# Altium footprint library Miscellaneous Connectors.PcbLib: 193 footprints (part 8 of 13)
Each footprint in its own frame and in the unit in brackets; x right, y up, seen from the top. Pads: shape width x height; smd on the part's side, far side on the other; paste and mask are expansions set on the pad; w line width, h text height; cw(c..) or ccw(c..) is an arc to the next point about the centre after c.
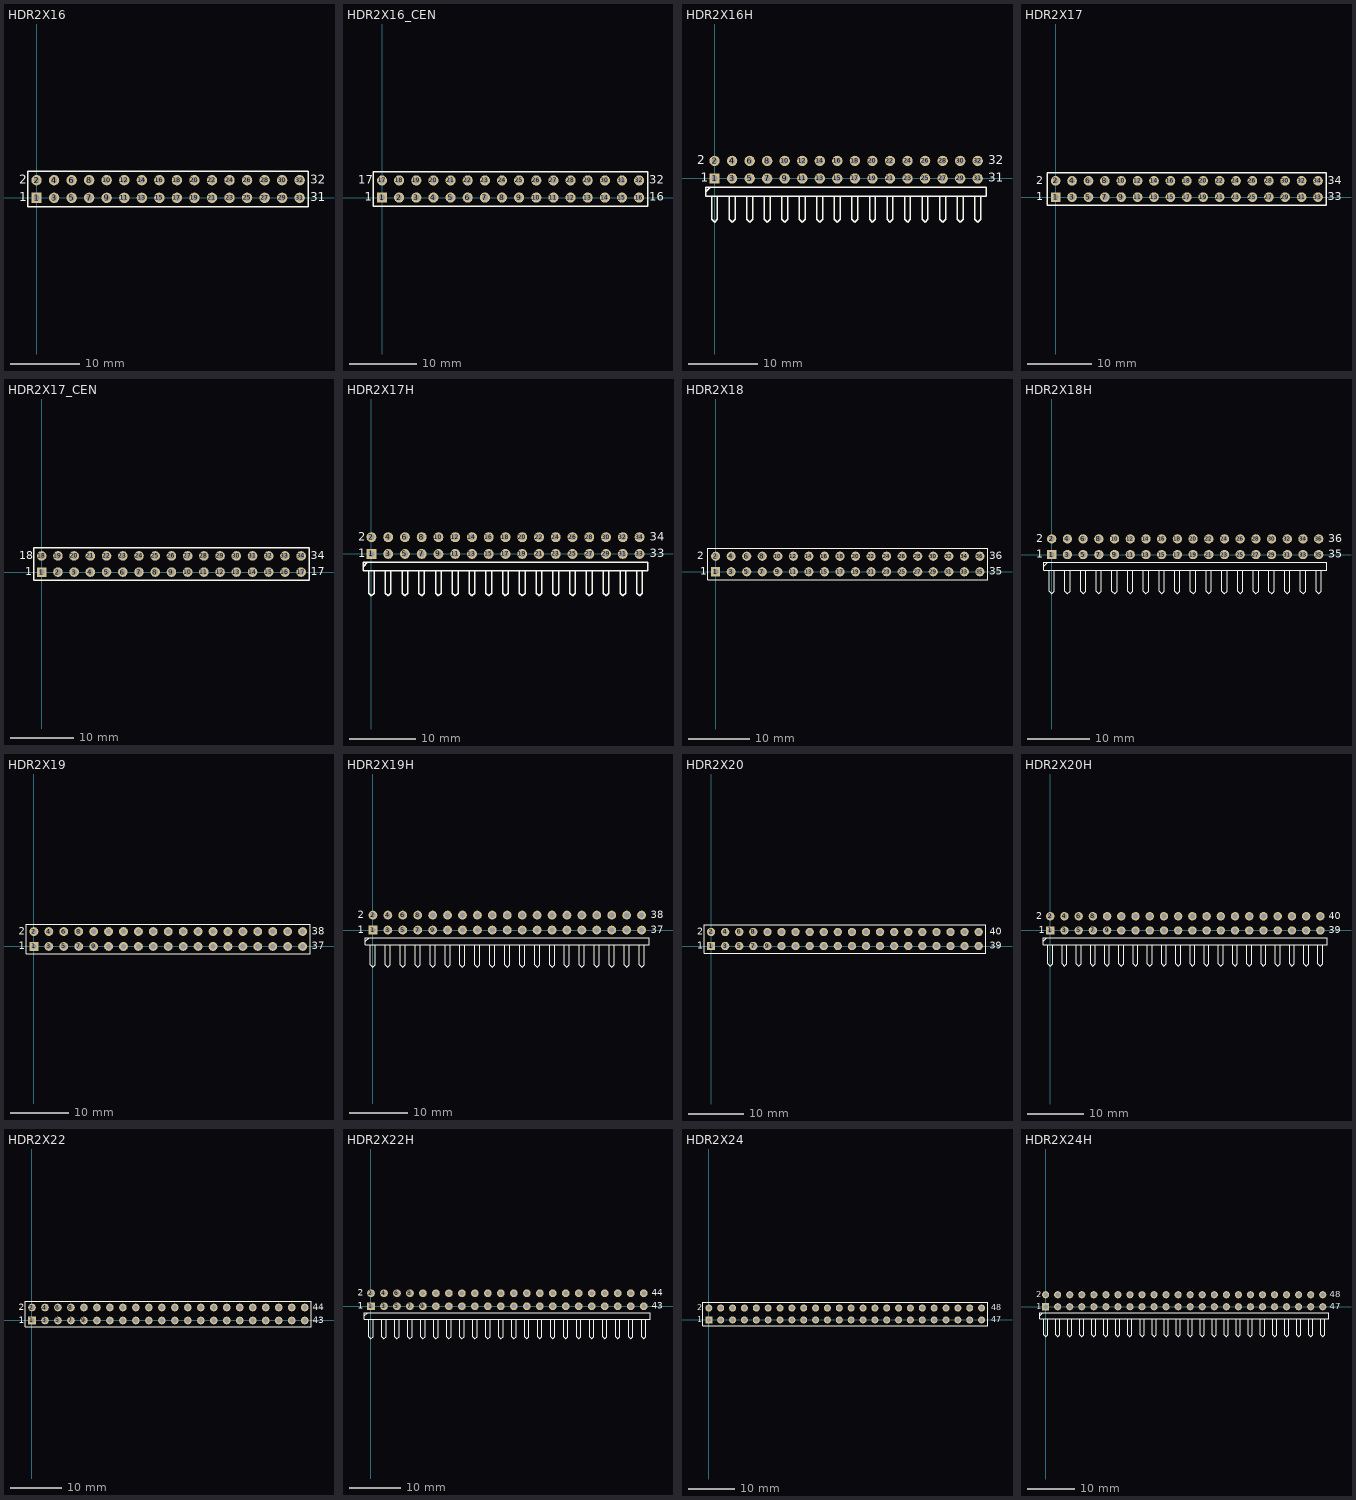
[diagram p7: the footprints below, top view; thin cyan lines are the x and y axes]

## HDR2X16 [mm] "Connector; Header; 16x2 Position"
pads (32):
  rect 1.5x1.5 hole 0.9: 1(0,0)
  round 1.5 hole 0.9: 2(0,2.54) 3(2.54,0) 4(2.54,2.54) 5(5.08,0) 6(5.08,2.54) 7(7.62,0) 8(7.62,2.54) 9(10.16,0) 10(10.16,2.54) 11(12.7,0) 12(12.7,2.54) 13(15.24,0) 14(15.24,2.54) 15(17.78,0) 16(17.78,2.54) 17(20.32,0) 18(20.32,2.54) 19(22.86,0) 20(22.86,2.54) 21(25.4,0) 22(25.4,2.54) 23(27.94,0) 24(27.94,2.54) 25(30.48,0) 26(30.48,2.54) 27(33.02,0) 28(33.02,2.54) 29(35.56,0) 30(35.56,2.54) 31(38.1,0) 32(38.1,2.54)
Top Overlay:
  lines w0.2: -1.27,-1.27 -1.27,3.81 39.37,3.81 39.37,-1.27 -1.27,-1.27
  text "32" at 39.624,2.032 h1.27
  text "31" at 39.624,-0.508 h1.27
  text "1" at -2.54,-0.508 h1.27
  text "2" at -2.54,2.032 h1.27

## HDR2X16_CEN [mm] "Connector; Header; 16x2 Position"
pads (32):
  rect 1.5x1.5 hole 0.9: 1(0,0)
  round 1.5 hole 0.9: 2(2.54,0) 3(5.08,0) 4(7.62,0) 5(10.16,0) 6(12.7,0) 7(15.24,0) 8(17.78,0) 9(20.32,0) 10(22.86,0) 11(25.4,0) 12(27.94,0) 13(30.48,0) 14(33.02,0) 15(35.56,0) 16(38.1,0) 17(0,2.54) 18(2.54,2.54) 19(5.08,2.54) 20(7.62,2.54) 21(10.16,2.54) 22(12.7,2.54) 23(15.24,2.54) 24(17.78,2.54) 25(20.32,2.54) 26(22.86,2.54) 27(25.4,2.54) 28(27.94,2.54) 29(30.48,2.54) 30(33.02,2.54) 31(35.56,2.54) 32(38.1,2.54)
Top Overlay:
  lines w0.2: -1.27,-1.27 39.37,-1.27 39.37,3.81 -1.27,3.81 -1.27,-1.27
  text "17" at -3.556,2.032 h1.27
  text "1" at -2.54,-0.508 h1.27
  text "16" at 39.624,-0.508 h1.27
  text "32" at 39.624,2.032 h1.27

## HDR2X16H [mm] "Connector; Header; 16x2 Position; Right Angle"
pads (32):
  rect 1.5x1.5 hole 0.9: 1(0,0)
  round 1.5 hole 0.9: 2(0,2.54) 3(2.54,0) 4(2.54,2.54) 5(5.08,0) 6(5.08,2.54) 7(7.62,0) 8(7.62,2.54) 9(10.16,0) 10(10.16,2.54) 11(12.7,0) 12(12.7,2.54) 13(15.24,0) 14(15.24,2.54) 15(17.78,0) 16(17.78,2.54) 17(20.32,0) 18(20.32,2.54) 19(22.86,0) 20(22.86,2.54) 21(25.4,0) 22(25.4,2.54) 23(27.94,0) 24(27.94,2.54) 25(30.48,0) 26(30.48,2.54) 27(33.02,0) 28(33.02,2.54) 29(35.56,0) 30(35.56,2.54) 31(38.1,0) 32(38.1,2.54)
Top Overlay:
  lines w0.2: -1.27,-1.905 -0.635,-1.27 ; -0.423,-2.54 -0.423,-5.927 0,-6.35 0.423,-5.927 0.423,-2.54 ; 2.117,-2.54 2.117,-5.927 2.54,-6.35 2.963,-5.927 2.963,-2.54 ; 4.657,-2.54 4.657,-5.927 5.08,-6.35 5.503,-5.927 5.503,-2.54 ; 7.197,-2.54 7.197,-5.927 7.62,-6.35 8.043,-5.927 8.043,-2.54 ; 9.737,-2.54 9.737,-5.927 10.16,-6.35 10.583,-5.927 10.583,-2.54 ; 12.277,-2.54 12.277,-5.927 12.7,-6.35 13.123,-5.927 13.123,-2.54 ; 14.817,-2.54 14.817,-5.927 15.24,-6.35 15.663,-5.927 15.663,-2.54 ; 17.357,-2.54 17.357,-5.927 17.78,-6.35 18.203,-5.927 18.203,-2.54 ; 19.897,-2.54 19.897,-5.927 20.32,-6.35 20.743,-5.927 20.743,-2.54 ; 22.437,-2.54 22.437,-5.927 22.86,-6.35 23.283,-5.927 23.283,-2.54 ; 24.977,-2.54 24.977,-5.927 25.4,-6.35 25.823,-5.927 25.823,-2.54 ; 27.517,-2.54 27.517,-5.927 27.94,-6.35 28.363,-5.927 28.363,-2.54 ; 30.057,-2.54 30.057,-5.927 30.48,-6.35 30.903,-5.927 30.903,-2.54 ; 32.597,-2.54 32.597,-5.927 33.02,-6.35 33.443,-5.927 33.443,-2.54 ; 35.137,-2.54 35.137,-5.927 35.56,-6.35 35.983,-5.927 35.983,-2.54 ; 37.677,-2.54 37.677,-5.927 38.1,-6.35 38.523,-5.927 38.523,-2.54 ; -1.27,-2.54 39.37,-2.54 39.37,-1.27 -1.27,-1.27 -1.27,-2.54
  text "32" at 39.624,2.032 h1.27
  text "31" at 39.624,-0.508 h1.27
  text "1" at -2.032,-0.508 h1.27
  text "2" at -2.54,2.032 h1.27

## HDR2X17 [mm] "Connector; Header; 17x2 Position"
pads (34):
  rect 1.5x1.5 hole 0.9: 1(0,0)
  round 1.5 hole 0.9: 2(0,2.54) 3(2.54,0) 4(2.54,2.54) 5(5.08,0) 6(5.08,2.54) 7(7.62,0) 8(7.62,2.54) 9(10.16,0) 10(10.16,2.54) 11(12.7,0) 12(12.7,2.54) 13(15.24,0) 14(15.24,2.54) 15(17.78,0) 16(17.78,2.54) 17(20.32,0) 18(20.32,2.54) 19(22.86,0) 20(22.86,2.54) 21(25.4,0) 22(25.4,2.54) 23(27.94,0) 24(27.94,2.54) 25(30.48,0) 26(30.48,2.54) 27(33.02,0) 28(33.02,2.54) 29(35.56,0) 30(35.56,2.54) 31(38.1,0) 32(38.1,2.54) 33(40.64,0) 34(40.64,2.54)
Top Overlay:
  lines w0.2: -1.27,-1.27 41.91,-1.27 41.91,3.81 -1.27,3.81 -1.27,-1.27
  text "34" at 42.164,2.032 h1.27
  text "33" at 42.164,-0.508 h1.27
  text "1" at -3.048,-0.508 h1.27
  text "2" at -3.048,2.032 h1.27

## HDR2X17_CEN [mm] "Connector; Header; 17x2 Position"
pads (34):
  rect 1.5x1.5 hole 0.9: 1(0,0)
  round 1.5 hole 0.9: 2(2.54,0) 3(5.08,0) 4(7.62,0) 5(10.16,0) 6(12.7,0) 7(15.24,0) 8(17.78,0) 9(20.32,0) 10(22.86,0) 11(25.4,0) 12(27.94,0) 13(30.48,0) 14(33.02,0) 15(35.56,0) 16(38.1,0) 17(40.64,0) 18(0,2.54) 19(2.54,2.54) 20(5.08,2.54) 21(7.62,2.54) 22(10.16,2.54) 23(12.7,2.54) 24(15.24,2.54) 25(17.78,2.54) 26(20.32,2.54) 27(22.86,2.54) 28(25.4,2.54) 29(27.94,2.54) 30(30.48,2.54) 31(33.02,2.54) 32(35.56,2.54) 33(38.1,2.54) 34(40.64,2.54)
Top Overlay:
  lines w0.2: -1.27,-1.27 41.91,-1.27 41.91,3.81 -1.27,3.81 -1.27,-1.27
  text "18" at -3.556,2.032 h1.27
  text "1" at -2.54,-0.508 h1.27
  text "17" at 42.164,-0.508 h1.27
  text "34" at 42.164,2.032 h1.27

## HDR2X17H [mm] "Connector; Header; 17x2 Position; Right Angle"
pads (34):
  rect 1.5x1.5 hole 0.9: 1(0,0)
  round 1.5 hole 0.9: 2(0,2.54) 3(2.54,0) 4(2.54,2.54) 5(5.08,0) 6(5.08,2.54) 7(7.62,0) 8(7.62,2.54) 9(10.16,0) 10(10.16,2.54) 11(12.7,0) 12(12.7,2.54) 13(15.24,0) 14(15.24,2.54) 15(17.78,0) 16(17.78,2.54) 17(20.32,0) 18(20.32,2.54) 19(22.86,0) 20(22.86,2.54) 21(25.4,0) 22(25.4,2.54) 23(27.94,0) 24(27.94,2.54) 25(30.48,0) 26(30.48,2.54) 27(33.02,0) 28(33.02,2.54) 29(35.56,0) 30(35.56,2.54) 31(38.1,0) 32(38.1,2.54) 33(40.64,0) 34(40.64,2.54)
Top Overlay:
  lines w0.2: -1.27,-1.905 -0.635,-1.27 ; -0.423,-2.54 -0.423,-5.927 0,-6.35 0.423,-5.927 0.423,-2.54 ; 2.117,-2.54 2.117,-5.927 2.54,-6.35 2.963,-5.927 2.963,-2.54 ; 4.657,-2.54 4.657,-5.927 5.08,-6.35 5.503,-5.927 5.503,-2.54 ; 7.197,-2.54 7.197,-5.927 7.62,-6.35 8.043,-5.927 8.043,-2.54 ; 9.737,-2.54 9.737,-5.927 10.16,-6.35 10.583,-5.927 10.583,-2.54 ; 12.277,-2.54 12.277,-5.927 12.7,-6.35 13.123,-5.927 13.123,-2.54 ; 14.817,-2.54 14.817,-5.927 15.24,-6.35 15.663,-5.927 15.663,-2.54 ; 17.357,-2.54 17.357,-5.927 17.78,-6.35 18.203,-5.927 18.203,-2.54 ; 19.897,-2.54 19.897,-5.927 20.32,-6.35 20.743,-5.927 20.743,-2.54 ; 22.437,-2.54 22.437,-5.927 22.86,-6.35 23.283,-5.927 23.283,-2.54 ; 24.977,-2.54 24.977,-5.927 25.4,-6.35 25.823,-5.927 25.823,-2.54 ; 27.517,-2.54 27.517,-5.927 27.94,-6.35 28.363,-5.927 28.363,-2.54 ; 30.057,-2.54 30.057,-5.927 30.48,-6.35 30.903,-5.927 30.903,-2.54 ; 32.597,-2.54 32.597,-5.927 33.02,-6.35 33.443,-5.927 33.443,-2.54 ; 35.137,-2.54 35.137,-5.927 35.56,-6.35 35.983,-5.927 35.983,-2.54 ; 37.677,-2.54 37.677,-5.927 38.1,-6.35 38.523,-5.927 38.523,-2.54 ; 40.217,-2.54 40.217,-5.927 40.64,-6.35 41.063,-5.927 41.063,-2.54 ; -1.27,-2.54 -1.27,-1.27 41.91,-1.27 41.91,-2.54 -1.27,-2.54
  text "34" at 42.164,2.032 h1.27
  text "33" at 42.164,-0.508 h1.27
  text "1" at -2.032,-0.508 h1.27
  text "2" at -2.032,2.032 h1.27

## HDR2X18 [mm] "Connector; Header; 18x2 Position"
pads (36):
  rect 1.5x1.5 hole 0.9: 1(0,0)
  round 1.5 hole 0.9: 2(0,2.54) 3(2.54,0) 4(2.54,2.54) 5(5.08,0) 6(5.08,2.54) 7(7.62,0) 8(7.62,2.54) 9(10.16,0) 10(10.16,2.54) 11(12.7,0) 12(12.7,2.54) 13(15.24,0) 14(15.24,2.54) 15(17.78,0) 16(17.78,2.54) 17(20.32,0) 18(20.32,2.54) 19(22.86,0) 20(22.86,2.54) 21(25.4,0) 22(25.4,2.54) 23(27.94,0) 24(27.94,2.54) 25(30.48,0) 26(30.48,2.54) 27(33.02,0) 28(33.02,2.54) 29(35.56,0) 30(35.56,2.54) 31(38.1,0) 32(38.1,2.54) 33(40.64,0) 34(40.64,2.54) 35(43.18,0) 36(43.18,2.54)
Top Overlay:
  lines w0.2: -1.27,-1.27 -1.27,3.81 44.45,3.81 44.45,-1.27 -1.27,-1.27
  text "2" at -3.048,2.032 h1.27
  text "1" at -2.54,-0.508 h1.27
  text "35" at 44.704,-0.508 h1.27
  text "36" at 44.704,2.032 h1.27

## HDR2X18H [mm] "Connector; Header; 18x2 Position; Right Angle"
pads (36):
  rect 1.5x1.5 hole 0.9: 1(0,0)
  round 1.5 hole 0.9: 2(0,2.54) 3(2.54,0) 4(2.54,2.54) 5(5.08,0) 6(5.08,2.54) 7(7.62,0) 8(7.62,2.54) 9(10.16,0) 10(10.16,2.54) 11(12.7,0) 12(12.7,2.54) 13(15.24,0) 14(15.24,2.54) 15(17.78,0) 16(17.78,2.54) 17(20.32,0) 18(20.32,2.54) 19(22.86,0) 20(22.86,2.54) 21(25.4,0) 22(25.4,2.54) 23(27.94,0) 24(27.94,2.54) 25(30.48,0) 26(30.48,2.54) 27(33.02,0) 28(33.02,2.54) 29(35.56,0) 30(35.56,2.54) 31(38.1,0) 32(38.1,2.54) 33(40.64,0) 34(40.64,2.54) 35(43.18,0) 36(43.18,2.54)
Top Overlay:
  lines w0.2: -1.27,-1.905 -0.635,-1.27 ; -0.423,-2.54 -0.423,-5.927 0,-6.35 0.423,-5.927 0.423,-2.54 ; 2.117,-2.54 2.117,-5.927 2.54,-6.35 2.963,-5.927 2.963,-2.54 ; 4.657,-2.54 4.657,-5.927 5.08,-6.35 5.503,-5.927 5.503,-2.54 ; 7.197,-2.54 7.197,-5.927 7.62,-6.35 8.043,-5.927 8.043,-2.54 ; 9.737,-2.54 9.737,-5.927 10.16,-6.35 10.583,-5.927 10.583,-2.54 ; 12.277,-2.54 12.277,-5.927 12.7,-6.35 13.123,-5.927 13.123,-2.54 ; 14.817,-2.54 14.817,-5.927 15.24,-6.35 15.663,-5.927 15.663,-2.54 ; 17.357,-2.54 17.357,-5.927 17.78,-6.35 18.203,-5.927 18.203,-2.54 ; 19.897,-2.54 19.897,-5.927 20.32,-6.35 20.743,-5.927 20.743,-2.54 ; 22.437,-2.54 22.437,-5.927 22.86,-6.35 23.283,-5.927 23.283,-2.54 ; 24.977,-2.54 24.977,-5.927 25.4,-6.35 25.823,-5.927 25.823,-2.54 ; 27.517,-2.54 27.517,-5.927 27.94,-6.35 28.363,-5.927 28.363,-2.54 ; 30.057,-2.54 30.057,-5.927 30.48,-6.35 30.903,-5.927 30.903,-2.54 ; 32.597,-2.54 32.597,-5.927 33.02,-6.35 33.443,-5.927 33.443,-2.54 ; 35.137,-2.54 35.137,-5.927 35.56,-6.35 35.983,-5.927 35.983,-2.54 ; 37.677,-2.54 37.677,-5.927 38.1,-6.35 38.523,-5.927 38.523,-2.54 ; 40.217,-2.54 40.217,-5.927 40.64,-6.35 41.063,-5.927 41.063,-2.54 ; 42.757,-2.54 42.757,-5.927 43.18,-6.35 43.603,-5.927 43.603,-2.54 ; -1.27,-2.54 -1.27,-1.27 44.45,-1.27 44.45,-2.54 -1.27,-2.54
  text "35" at 44.704,-0.508 h1.27
  text "36" at 44.704,2.032 h1.27
  text "2" at -2.54,2.032 h1.27
  text "1" at -2.54,-0.508 h1.27

## HDR2X19 [mm] "Connector; Header; 19x2 Position"
pads (38):
  rect 1.5x1.5 hole 0.9: 1(0,0)
  round 1.5 hole 0.9: 2(0,2.54) 3(2.54,0) 4(2.54,2.54) 5(5.08,0) 6(5.08,2.54) 7(7.62,0) 8(7.62,2.54) 9(10.16,0) 10(10.16,2.54) 11(12.7,0) 12(12.7,2.54) 13(15.24,0) 14(15.24,2.54) 15(17.78,0) 16(17.78,2.54) 17(20.32,0) 18(20.32,2.54) 19(22.86,0) 20(22.86,2.54) 21(25.4,0) 22(25.4,2.54) 23(27.94,0) 24(27.94,2.54) 25(30.48,0) 26(30.48,2.54) 27(33.02,0) 28(33.02,2.54) 29(35.56,0) 30(35.56,2.54) 31(38.1,0) 32(38.1,2.54) 33(40.64,0) 34(40.64,2.54) 35(43.18,0) 36(43.18,2.54) 37(45.72,0) 38(45.72,2.54)
Top Overlay:
  lines w0.2: -1.27,-1.27 -1.27,3.81 46.99,3.81 46.99,-1.27 -1.27,-1.27
  text "38" at 47.244,2.032 h1.27
  text "37" at 47.244,-0.508 h1.27
  text "1" at -2.54,-0.508 h1.27
  text "2" at -2.54,2.032 h1.27

## HDR2X19H [mm] "Connector; Header; 19x2 Position; Right Angle"
pads (38):
  rect 1.5x1.5 hole 0.9: 1(0,0)
  round 1.5 hole 0.9: 2(0,2.54) 3(2.54,0) 4(2.54,2.54) 5(5.08,0) 6(5.08,2.54) 7(7.62,0) 8(7.62,2.54) 9(10.16,0) 10(10.16,2.54) 11(12.7,0) 12(12.7,2.54) 13(15.24,0) 14(15.24,2.54) 15(17.78,0) 16(17.78,2.54) 17(20.32,0) 18(20.32,2.54) 19(22.86,0) 20(22.86,2.54) 21(25.4,0) 22(25.4,2.54) 23(27.94,0) 24(27.94,2.54) 25(30.48,0) 26(30.48,2.54) 27(33.02,0) 28(33.02,2.54) 29(35.56,0) 30(35.56,2.54) 31(38.1,0) 32(38.1,2.54) 33(40.64,0) 34(40.64,2.54) 35(43.18,0) 36(43.18,2.54) 37(45.72,0) 38(45.72,2.54)
Top Overlay:
  lines w0.2: -1.27,-1.905 -0.635,-1.27 ; -0.423,-2.54 -0.423,-5.927 0,-6.35 0.423,-5.927 0.423,-2.54 ; 2.117,-2.54 2.117,-5.927 2.54,-6.35 2.963,-5.927 2.963,-2.54 ; 4.657,-2.54 4.657,-5.927 5.08,-6.35 5.503,-5.927 5.503,-2.54 ; 7.197,-2.54 7.197,-5.927 7.62,-6.35 8.043,-5.927 8.043,-2.54 ; 9.737,-2.54 9.737,-5.927 10.16,-6.35 10.583,-5.927 10.583,-2.54 ; 12.277,-2.54 12.277,-5.927 12.7,-6.35 13.123,-5.927 13.123,-2.54 ; 14.817,-2.54 14.817,-5.927 15.24,-6.35 15.663,-5.927 15.663,-2.54 ; 17.357,-2.54 17.357,-5.927 17.78,-6.35 18.203,-5.927 18.203,-2.54 ; 19.897,-2.54 19.897,-5.927 20.32,-6.35 20.743,-5.927 20.743,-2.54 ; 22.437,-2.54 22.437,-5.927 22.86,-6.35 23.283,-5.927 23.283,-2.54 ; 24.977,-2.54 24.977,-5.927 25.4,-6.35 25.823,-5.927 25.823,-2.54 ; 27.517,-2.54 27.517,-5.927 27.94,-6.35 28.363,-5.927 28.363,-2.54 ; 30.057,-2.54 30.057,-5.927 30.48,-6.35 30.903,-5.927 30.903,-2.54 ; 32.597,-2.54 32.597,-5.927 33.02,-6.35 33.443,-5.927 33.443,-2.54 ; 35.137,-2.54 35.137,-5.927 35.56,-6.35 35.983,-5.927 35.983,-2.54 ; 37.677,-2.54 37.677,-5.927 38.1,-6.35 38.523,-5.927 38.523,-2.54 ; 40.217,-2.54 40.217,-5.927 40.64,-6.35 41.063,-5.927 41.063,-2.54 ; 42.757,-2.54 42.757,-5.927 43.18,-6.35 43.603,-5.927 43.603,-2.54 ; 45.297,-2.54 45.297,-5.927 45.72,-6.35 46.143,-5.927 46.143,-2.54 ; -1.27,-2.54 46.99,-2.54 46.99,-1.27 -1.27,-1.27 -1.27,-2.54
  text "38" at 47.244,2.032 h1.27
  text "37" at 47.244,-0.508 h1.27
  text "1" at -2.54,-0.508 h1.27
  text "2" at -2.54,2.032 h1.27

## HDR2X20 [mm] "Connector; Header; 20x2 Position"
pads (40):
  rect 1.5x1.5 hole 0.9: 1(0,0)
  round 1.5 hole 0.9: 2(0,2.54) 3(2.54,0) 4(2.54,2.54) 5(5.08,0) 6(5.08,2.54) 7(7.62,0) 8(7.62,2.54) 9(10.16,0) 10(10.16,2.54) 11(12.7,0) 12(12.7,2.54) 13(15.24,0) 14(15.24,2.54) 15(17.78,0) 16(17.78,2.54) 17(20.32,0) 18(20.32,2.54) 19(22.86,0) 20(22.86,2.54) 21(25.4,0) 22(25.4,2.54) 23(27.94,0) 24(27.94,2.54) 25(30.48,0) 26(30.48,2.54) 27(33.02,0) 28(33.02,2.54) 29(35.56,0) 30(35.56,2.54) 31(38.1,0) 32(38.1,2.54) 33(40.64,0) 34(40.64,2.54) 35(43.18,0) 36(43.18,2.54) 37(45.72,0) 38(45.72,2.54) 39(48.26,0) 40(48.26,2.54)
Top Overlay:
  lines w0.2: -1.27,-1.27 -1.27,3.81 49.53,3.81 49.53,-1.27 -1.27,-1.27
  text "39" at 50.292,-0.508 h1.27
  text "40" at 50.292,2.032 h1.27
  text "2" at -2.54,2.032 h1.27
  text "1" at -2.54,-0.508 h1.27

## HDR2X20H [mm] "Connector; Header; 20x2 Position; Right Angle"
pads (40):
  rect 1.5x1.5 hole 0.9: 1(0,0)
  round 1.5 hole 0.9: 2(0,2.54) 3(2.54,0) 4(2.54,2.54) 5(5.08,0) 6(5.08,2.54) 7(7.62,0) 8(7.62,2.54) 9(10.16,0) 10(10.16,2.54) 11(12.7,0) 12(12.7,2.54) 13(15.24,0) 14(15.24,2.54) 15(17.78,0) 16(17.78,2.54) 17(20.32,0) 18(20.32,2.54) 19(22.86,0) 20(22.86,2.54) 21(25.4,0) 22(25.4,2.54) 23(27.94,0) 24(27.94,2.54) 25(30.48,0) 26(30.48,2.54) 27(33.02,0) 28(33.02,2.54) 29(35.56,0) 30(35.56,2.54) 31(38.1,0) 32(38.1,2.54) 33(40.64,0) 34(40.64,2.54) 35(43.18,0) 36(43.18,2.54) 37(45.72,0) 38(45.72,2.54) 39(48.26,0) 40(48.26,2.54)
Top Overlay:
  lines w0.2: -1.27,-1.905 -0.635,-1.27 ; -0.423,-2.54 -0.423,-5.927 0,-6.35 0.423,-5.927 0.423,-2.54 ; 2.117,-2.54 2.117,-5.927 2.54,-6.35 2.963,-5.927 2.963,-2.54 ; 4.657,-2.54 4.657,-5.927 5.08,-6.35 5.503,-5.927 5.503,-2.54 ; 7.197,-2.54 7.197,-5.927 7.62,-6.35 8.043,-5.927 8.043,-2.54 ; 9.737,-2.54 9.737,-5.927 10.16,-6.35 10.583,-5.927 10.583,-2.54 ; 12.277,-2.54 12.277,-5.927 12.7,-6.35 13.123,-5.927 13.123,-2.54 ; 14.817,-2.54 14.817,-5.927 15.24,-6.35 15.663,-5.927 15.663,-2.54 ; 17.357,-2.54 17.357,-5.927 17.78,-6.35 18.203,-5.927 18.203,-2.54 ; 19.897,-2.54 19.897,-5.927 20.32,-6.35 20.743,-5.927 20.743,-2.54 ; 22.437,-2.54 22.437,-5.927 22.86,-6.35 23.283,-5.927 23.283,-2.54 ; 24.977,-2.54 24.977,-5.927 25.4,-6.35 25.823,-5.927 25.823,-2.54 ; 27.517,-2.54 27.517,-5.927 27.94,-6.35 28.363,-5.927 28.363,-2.54 ; 30.057,-2.54 30.057,-5.927 30.48,-6.35 30.903,-5.927 30.903,-2.54 ; 32.597,-2.54 32.597,-5.927 33.02,-6.35 33.443,-5.927 33.443,-2.54 ; 35.137,-2.54 35.137,-5.927 35.56,-6.35 35.983,-5.927 35.983,-2.54 ; 37.677,-2.54 37.677,-5.927 38.1,-6.35 38.523,-5.927 38.523,-2.54 ; 40.217,-2.54 40.217,-5.927 40.64,-6.35 41.063,-5.927 41.063,-2.54 ; 42.757,-2.54 42.757,-5.927 43.18,-6.35 43.603,-5.927 43.603,-2.54 ; 45.297,-2.54 45.297,-5.927 45.72,-6.35 46.143,-5.927 46.143,-2.54 ; 47.837,-2.54 47.837,-5.927 48.26,-6.35 48.683,-5.927 48.683,-2.54 ; -1.27,-2.54 -1.27,-1.27 49.53,-1.27 49.53,-2.54 -1.27,-2.54
  text "40" at 49.784,2.032 h1.27
  text "39" at 49.784,-0.508 h1.27
  text "1" at -2.032,-0.508 h1.27
  text "2" at -2.54,2.032 h1.27

## HDR2X22 [mm] "Connector; Header; 22x2 Position"
pads (44):
  rect 1.5x1.5 hole 0.9: 1(0,0)
  round 1.5 hole 0.9: 2(0,2.54) 3(2.54,0) 4(2.54,2.54) 5(5.08,0) 6(5.08,2.54) 7(7.62,0) 8(7.62,2.54) 9(10.16,0) 10(10.16,2.54) 11(12.7,0) 12(12.7,2.54) 13(15.24,0) 14(15.24,2.54) 15(17.78,0) 16(17.78,2.54) 17(20.32,0) 18(20.32,2.54) 19(22.86,0) 20(22.86,2.54) 21(25.4,0) 22(25.4,2.54) 23(27.94,0) 24(27.94,2.54) 25(30.48,0) 26(30.48,2.54) 27(33.02,0) 28(33.02,2.54) 29(35.56,0) 30(35.56,2.54) 31(38.1,0) 32(38.1,2.54) 33(40.64,0) 34(40.64,2.54) 35(43.18,0) 36(43.18,2.54) 37(45.72,0) 38(45.72,2.54) 39(48.26,0) 40(48.26,2.54) 41(50.8,0) 42(50.8,2.54) 43(53.34,0) 44(53.34,2.54)
Top Overlay:
  lines w0.2: -1.27,-1.27 -1.27,3.81 54.61,3.81 54.61,-1.27 -1.27,-1.27
  text "43" at 54.864,-0.508 h1.27
  text "44" at 54.864,2.032 h1.27
  text "1" at -2.54,-0.508 h1.27
  text "2" at -2.54,2.032 h1.27

## HDR2X22H [mm] "Connector; Header; 22x2 Position; Right Angle"
pads (44):
  rect 1.5x1.5 hole 0.9: 1(0,0)
  round 1.5 hole 0.9: 2(0,2.54) 3(2.54,0) 4(2.54,2.54) 5(5.08,0) 6(5.08,2.54) 7(7.62,0) 8(7.62,2.54) 9(10.16,0) 10(10.16,2.54) 11(12.7,0) 12(12.7,2.54) 13(15.24,0) 14(15.24,2.54) 15(17.78,0) 16(17.78,2.54) 17(20.32,0) 18(20.32,2.54) 19(22.86,0) 20(22.86,2.54) 21(25.4,0) 22(25.4,2.54) 23(27.94,0) 24(27.94,2.54) 25(30.48,0) 26(30.48,2.54) 27(33.02,0) 28(33.02,2.54) 29(35.56,0) 30(35.56,2.54) 31(38.1,0) 32(38.1,2.54) 33(40.64,0) 34(40.64,2.54) 35(43.18,0) 36(43.18,2.54) 37(45.72,0) 38(45.72,2.54) 39(48.26,0) 40(48.26,2.54) 41(50.8,0) 42(50.8,2.54) 43(53.34,0) 44(53.34,2.54)
Top Overlay:
  lines w0.2: -1.27,-1.905 -0.635,-1.27 ; -0.423,-2.54 -0.423,-5.927 0,-6.35 0.423,-5.927 0.423,-2.54 ; 2.117,-2.54 2.117,-5.927 2.54,-6.35 2.963,-5.927 2.963,-2.54 ; 4.657,-2.54 4.657,-5.927 5.08,-6.35 5.503,-5.927 5.503,-2.54 ; 7.197,-2.54 7.197,-5.927 7.62,-6.35 8.043,-5.927 8.043,-2.54 ; 9.737,-2.54 9.737,-5.927 10.16,-6.35 10.583,-5.927 10.583,-2.54 ; 12.277,-2.54 12.277,-5.927 12.7,-6.35 13.123,-5.927 13.123,-2.54 ; 14.817,-2.54 14.817,-5.927 15.24,-6.35 15.663,-5.927 15.663,-2.54 ; 17.357,-2.54 17.357,-5.927 17.78,-6.35 18.203,-5.927 18.203,-2.54 ; 19.897,-2.54 19.897,-5.927 20.32,-6.35 20.743,-5.927 20.743,-2.54 ; 22.437,-2.54 22.437,-5.927 22.86,-6.35 23.283,-5.927 23.283,-2.54 ; 24.977,-2.54 24.977,-5.927 25.4,-6.35 25.823,-5.927 25.823,-2.54 ; 27.517,-2.54 27.517,-5.927 27.94,-6.35 28.363,-5.927 28.363,-2.54 ; 30.057,-2.54 30.057,-5.927 30.48,-6.35 30.903,-5.927 30.903,-2.54 ; 32.597,-2.54 32.597,-5.927 33.02,-6.35 33.443,-5.927 33.443,-2.54 ; 35.137,-2.54 35.137,-5.927 35.56,-6.35 35.983,-5.927 35.983,-2.54 ; 37.677,-2.54 37.677,-5.927 38.1,-6.35 38.523,-5.927 38.523,-2.54 ; 40.217,-2.54 40.217,-5.927 40.64,-6.35 41.063,-5.927 41.063,-2.54 ; 42.757,-2.54 42.757,-5.927 43.18,-6.35 43.603,-5.927 43.603,-2.54 ; 45.297,-2.54 45.297,-5.927 45.72,-6.35 46.143,-5.927 46.143,-2.54 ; 47.837,-2.54 47.837,-5.927 48.26,-6.35 48.683,-5.927 48.683,-2.54 ; 50.377,-2.54 50.377,-5.927 50.8,-6.35 51.223,-5.927 51.223,-2.54 ; 52.917,-2.54 52.917,-5.927 53.34,-6.35 53.763,-5.927 53.763,-2.54 ; -1.27,-2.54 -1.27,-1.27 54.61,-1.27 54.61,-2.54 -1.27,-2.54
  text "2" at -2.54,2.032 h1.27
  text "1" at -2.54,-0.508 h1.27
  text "43" at 54.864,-0.508 h1.27
  text "44" at 54.864,2.032 h1.27

## HDR2X24 [mm] "Connector; Header; 24x2 Position"
pads (48):
  rect 1.5x1.5 hole 0.9: 1(0,0)
  round 1.5 hole 0.9: 2(0,2.54) 3(2.54,0) 4(2.54,2.54) 5(5.08,0) 6(5.08,2.54) 7(7.62,0) 8(7.62,2.54) 9(10.16,0) 10(10.16,2.54) 11(12.7,0) 12(12.7,2.54) 13(15.24,0) 14(15.24,2.54) 15(17.78,0) 16(17.78,2.54) 17(20.32,0) 18(20.32,2.54) 19(22.86,0) 20(22.86,2.54) 21(25.4,0) 22(25.4,2.54) 23(27.94,0) 24(27.94,2.54) 25(30.48,0) 26(30.48,2.54) 27(33.02,0) 28(33.02,2.54) 29(35.56,0) 30(35.56,2.54) 31(38.1,0) 32(38.1,2.54) 33(40.64,0) 34(40.64,2.54) 35(43.18,0) 36(43.18,2.54) 37(45.72,0) 38(45.72,2.54) 39(48.26,0) 40(48.26,2.54) 41(50.8,0) 42(50.8,2.54) 43(53.34,0) 44(53.34,2.54) 45(55.88,0) 46(55.88,2.54) 47(58.42,0) 48(58.42,2.54)
Top Overlay:
  lines w0.2: -1.27,-1.27 59.69,-1.27 59.69,3.81 -1.27,3.81 -1.27,-1.27
  text "2" at -2.54,2.032 h1.27
  text "1" at -2.54,-0.508 h1.27
  text "48" at 60.452,2.032 h1.27
  text "47" at 60.452,-0.508 h1.27

## HDR2X24H [mm] "Connector; Header; 24x2 Position; Right Angle"
pads (48):
  rect 1.5x1.5 hole 0.9: 1(0,0)
  round 1.5 hole 0.9: 2(0,2.54) 3(2.54,0) 4(2.54,2.54) 5(5.08,0) 6(5.08,2.54) 7(7.62,0) 8(7.62,2.54) 9(10.16,0) 10(10.16,2.54) 11(12.7,0) 12(12.7,2.54) 13(15.24,0) 14(15.24,2.54) 15(17.78,0) 16(17.78,2.54) 17(20.32,0) 18(20.32,2.54) 19(22.86,0) 20(22.86,2.54) 21(25.4,0) 22(25.4,2.54) 23(27.94,0) 24(27.94,2.54) 25(30.48,0) 26(30.48,2.54) 27(33.02,0) 28(33.02,2.54) 29(35.56,0) 30(35.56,2.54) 31(38.1,0) 32(38.1,2.54) 33(40.64,0) 34(40.64,2.54) 35(43.18,0) 36(43.18,2.54) 37(45.72,0) 38(45.72,2.54) 39(48.26,0) 40(48.26,2.54) 41(50.8,0) 42(50.8,2.54) 43(53.34,0) 44(53.34,2.54) 45(55.88,0) 46(55.88,2.54) 47(58.42,0) 48(58.42,2.54)
Top Overlay:
  lines w0.2: -1.27,-1.905 -0.635,-1.27 ; -0.423,-2.54 -0.423,-5.927 0,-6.35 0.423,-5.927 0.423,-2.54 ; 2.117,-2.54 2.117,-5.927 2.54,-6.35 2.963,-5.927 2.963,-2.54 ; 4.657,-2.54 4.657,-5.927 5.08,-6.35 5.503,-5.927 5.503,-2.54 ; 7.197,-2.54 7.197,-5.927 7.62,-6.35 8.043,-5.927 8.043,-2.54 ; 9.737,-2.54 9.737,-5.927 10.16,-6.35 10.583,-5.927 10.583,-2.54 ; 12.277,-2.54 12.277,-5.927 12.7,-6.35 13.123,-5.927 13.123,-2.54 ; 14.817,-2.54 14.817,-5.927 15.24,-6.35 15.663,-5.927 15.663,-2.54 ; 17.357,-2.54 17.357,-5.927 17.78,-6.35 18.203,-5.927 18.203,-2.54 ; 19.897,-2.54 19.897,-5.927 20.32,-6.35 20.743,-5.927 20.743,-2.54 ; 22.437,-2.54 22.437,-5.927 22.86,-6.35 23.283,-5.927 23.283,-2.54 ; 24.977,-2.54 24.977,-5.927 25.4,-6.35 25.823,-5.927 25.823,-2.54 ; 27.517,-2.54 27.517,-5.927 27.94,-6.35 28.363,-5.927 28.363,-2.54 ; 30.057,-2.54 30.057,-5.927 30.48,-6.35 30.903,-5.927 30.903,-2.54 ; 32.597,-2.54 32.597,-5.927 33.02,-6.35 33.443,-5.927 33.443,-2.54 ; 35.137,-2.54 35.137,-5.927 35.56,-6.35 35.983,-5.927 35.983,-2.54 ; 37.677,-2.54 37.677,-5.927 38.1,-6.35 38.523,-5.927 38.523,-2.54 ; 40.217,-2.54 40.217,-5.927 40.64,-6.35 41.063,-5.927 41.063,-2.54 ; 42.757,-2.54 42.757,-5.927 43.18,-6.35 43.603,-5.927 43.603,-2.54 ; 45.297,-2.54 45.297,-5.927 45.72,-6.35 46.143,-5.927 46.143,-2.54 ; 47.837,-2.54 47.837,-5.927 48.26,-6.35 48.683,-5.927 48.683,-2.54 ; 50.377,-2.54 50.377,-5.927 50.8,-6.35 51.223,-5.927 51.223,-2.54 ; 52.917,-2.54 52.917,-5.927 53.34,-6.35 53.763,-5.927 53.763,-2.54 ; 55.457,-2.54 55.457,-5.927 55.88,-6.35 56.303,-5.927 56.303,-2.54 ; 57.997,-2.54 57.997,-5.927 58.42,-6.35 58.843,-5.927 58.843,-2.54 ; -1.27,-2.54 59.69,-2.54 59.69,-1.27 -1.27,-1.27 -1.27,-2.54
  text "2" at -2.032,2.032 h1.27
  text "1" at -2.032,-0.508 h1.27
  text "47" at 59.944,-0.508 h1.27
  text "48" at 59.944,2.032 h1.27